# EAGLE library part ER-OLED_BREACKOUT (library Displays)
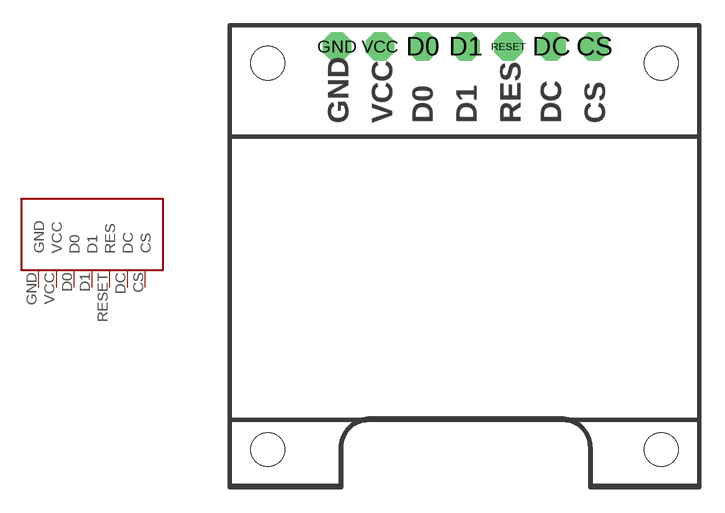
[diagram p2: symbol with the pads of ER-OLED_BRECKOUT; footprint ER-OLED_BRECKOUT]

Designator prefix DIS

## ER-OLED_BREACKOUT  [ER-OLED_BRECKOUT]
CS  CS
D0  D0
D1  D1
DC  DC
GND  GND
RESET  RES
VCC  VCC

## Footprint ER-OLED_BRECKOUT (pad centres in mm)
drill 0.9 pad 1.676 octagon: CS 7.62,13.45; D0 -2.54,13.45; D1 0,13.45; DC 5.08,13.45; GND -7.62,13.45; RESET 2.54,13.45; VCC -5.08,13.45
hole 2 at -11.72,12.45
hole 2 at -11.72,-10.45
hole 2 at 11.58,-10.45
hole 2 at 11.58,12.45